# EAGLE library part MA22-2 (library con-edge-100)
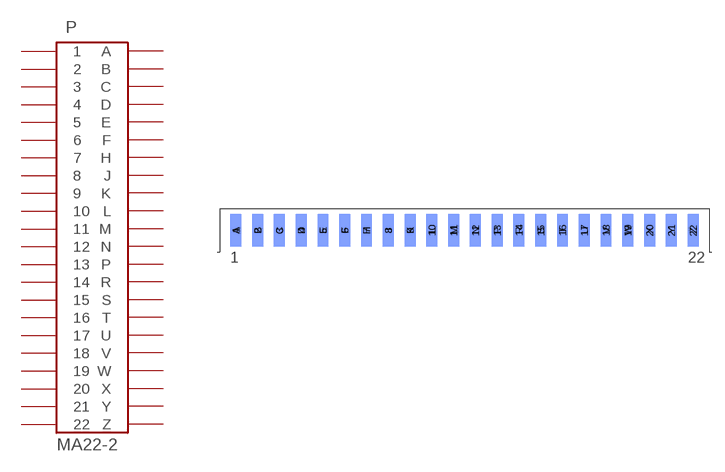
[diagram p2: symbol with the pads of MA22-2_SHORT; footprint MA22-2_SHORT]

Designator prefix P

## MA22-2SH  [MA22-2_SHORT]
1  1  pas
2  2  pas
3  3  pas
4  4  pas
5  5  pas
6  6  pas
7  7  pas
8  8  pas
9  9  pas
10  10  pas
11  11  pas
12  12  pas
13  13  pas
14  14  pas
15  15  pas
16  16  pas
17  17  pas
18  18  pas
19  19  pas
20  20  pas
21  21  pas
22  22  pas
A  A  pas
B  B  pas
C  C  pas
D  D  pas
E  E  pas
F  F  pas
H  H  pas
J  J  pas
K  K  pas
L  L  pas
M  M  pas
N  N  pas
P  P  pas
R  R  pas
S  S  pas
T  T  pas
U  U  pas
V  V  pas
W  W  pas
X  X  pas
Y  Y  pas
Z  Z  pas

## Footprint MA22-2_SHORT (pad centres in mm)
smd 1.27 x 3.81: 1 -26.67,0; 2 -24.13,0; 3 -21.59,0; 4 -19.05,0; 5 -16.51,0; 6 -13.97,0; 7 -11.43,0; 8 -8.89,0; 9 -6.35,0; 10 -3.81,0; 11 -1.27,0; 12 1.27,0; 13 3.81,0; 14 6.35,0; 15 8.89,0; 16 11.43,0; 17 13.97,0; 18 16.51,0; 19 19.05,0; 20 21.59,0; 21 24.13,0; 22 26.67,0
smd 1.27 x 3.81 bottom: A -26.67,0; B -24.13,0; C -21.59,0; D -19.05,0; E -16.51,0; F -13.97,0; H -11.43,0; J -8.89,0; K -6.35,0; L -3.81,0; M -1.27,0; N 1.27,0; P 3.81,0; R 6.35,0; S 8.89,0; T 11.43,0; U 13.97,0; V 16.51,0; W 19.05,0; X 21.59,0; Y 24.13,0; Z 26.67,0